# Altium schematic symbol library MB0024A.01.A.1.SchLib: 1 symbol
Pins are listed as number, name and electrical type; pins without a type are passive.

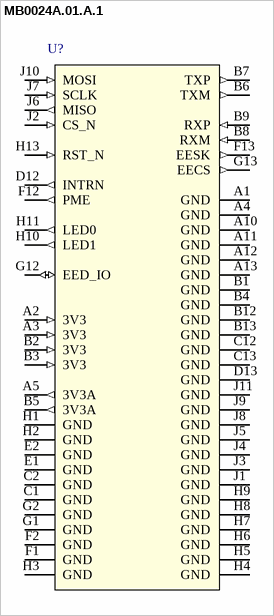
[diagram p0: symbol MB0024A.01.A.1]

## MB0024A.01.A.1
designator U?
pins: A1 GND (power), A2 3V3 (in), A3 3V3 (in), A4 GND (power), A5 3V3A (out), A10 GND (power), A11 GND (power), A12 GND (power), A13 GND (power), B1 GND (power), B2 3V3 (in), B3 3V3 (in), B4 GND (power), B5 3V3A (out), B6 TXM (out), B7 TXP (out), B8 RXM (in), B9 RXP (in), B12 GND (power), B13 GND (power), C1 GND (power), C2 GND (power), C12 GND (power), C13 GND (power), D12 INTRN (out), D13 GND (power), E1 GND (power), E2 GND (power), F1 GND (power), F2 GND (power), F12 PME (out), F13 EESK (out), G1 GND (power), G2 GND (power), G12 EED_IO (io), G13 EECS (out), H1 GND (power), H2 GND (power), H3 GND (power), H4 GND (power), H5 GND (power), H6 GND (power), H7 GND (power), H8 GND (power), H9 GND (power), H10 LED1 (out), H11 LED0 (out), H13 RST_N (in), J1 GND (power), J2 CS_N (in), J3 GND (power), J4 GND (power), J5 GND (power), J6 MISO (out), J7 SCLK (in), J8 GND (power), J9 GND (power), J10 MOSI (in), J11 GND (power)